# EAGLE library part HIP4082 (library evan)
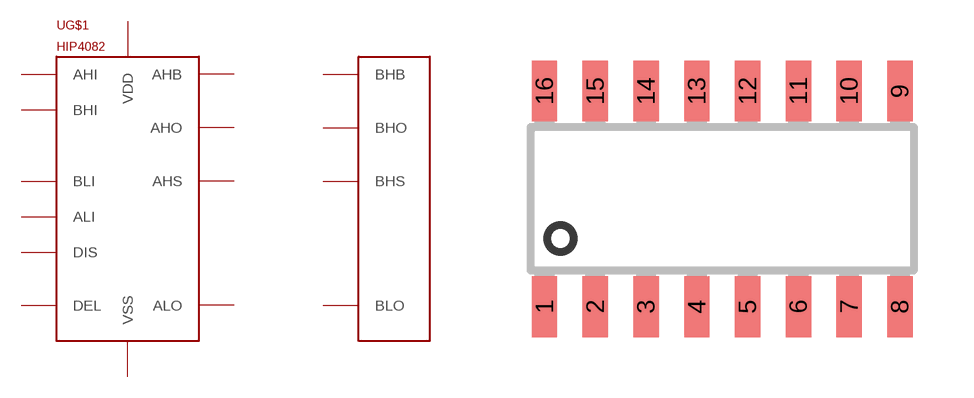
[diagram p7: symbol with the pads of SOIC16; footprint SOIC16]

Designator prefix -; gates G$1=HIP4082-A G$2=HIP4082-B

## HIP4082  [SOIC16]
1  G$2:BHB
2  G$1:BHI
3  G$1:BLI
4  G$1:ALI
5  G$1:DEL
6  G$1:VSS
7  G$1:AHI
8  G$1:DIS
9  G$1:AHB
10  G$1:AHO
11  G$1:AHS
12  G$1:VDD
13  G$1:ALO
14  G$2:BLO
15  G$2:BHS
16  G$2:BHO

## Footprint SOIC16 (pad centres in mm)
SMALL OUTLINE INTEGRATED CIRCUIT 16-Pin (150-Mil) SOIC Source: http://www.cypress.com .. 38-12025_0P_V.pdf
smd 0.635 x 1.524: 1 -4.445,-2.695; 2 -3.175,-2.695; 3 -1.905,-2.695; 4 -0.635,-2.695; 5 0.635,-2.695; 6 1.905,-2.695; 7 3.175,-2.695; 8 4.445,-2.695; 9 4.445,2.695; 10 3.175,2.695; 11 1.905,2.695; 12 0.635,2.695; 13 -0.635,2.695; 14 -1.905,2.695; 15 -3.175,2.695; 16 -4.445,2.695